# Altium schematic symbol library STCC2540IQTR.Schlib: 1 symbol
Pins are listed as number, name and electrical type; pins without a type are passive.

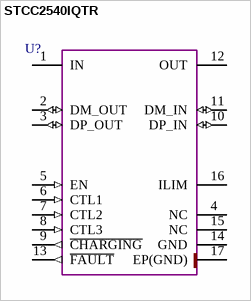
[diagram p0: symbol STCC2540IQTR]

## STCC2540IQTR
designator U?  (value not drawn)
pins: 1 IN (power), 2 DM_OUT (io), 3 DP_OUT (io), 4 NC, 5 EN (in), 6 CTL1 (in), 7 CTL2 (in), 8 CTL3 (in), 9 ~{CHARGING} (out), 10 DP_IN (io), 11 DM_IN (io), 12 OUT (power), 13 ~{FAULT} (out), 14 GND (power), 15 NC, 16 ILIM, 17 EP(GND) (power)